# EAGLE library part XCV400_HQ240 (library xilinx-xcv)
xcv400_hq240 edit this description Auto generated by make-symbol-device-package-bsdl.ulp Rev. 26 Source: xcv400_hq240.bsd
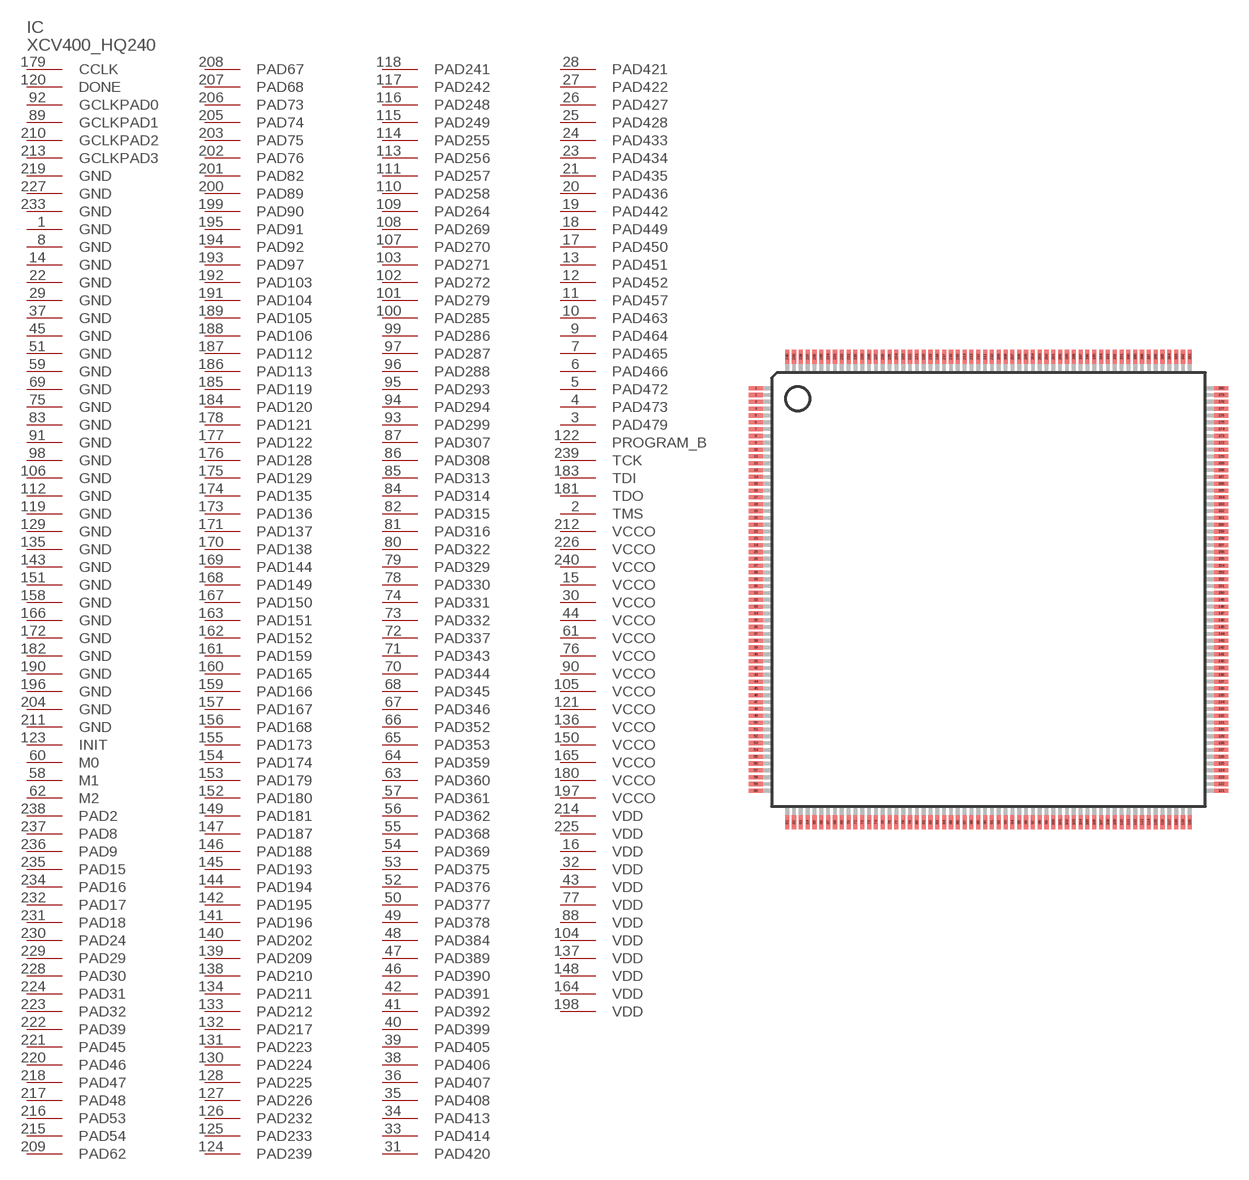
[diagram p97: symbol with the pads of HQ240; footprint HQ240]

Designator prefix IC

## XCV400_HQ240 (OC_FARNELL: unknown; OC_NEWARK: unknown)  [HQ240]
1  GND  pwr
2  TMS  in
3  PAD479
4  PAD473
5  PAD472
6  PAD466
7  PAD465
8  GND  pwr
9  PAD464
10  PAD463
11  PAD457
12  PAD452
13  PAD451
14  GND  pwr
15  VCCO  pwr
16  VDD  pwr
17  PAD450
18  PAD449
19  PAD442
20  PAD436
21  PAD435
22  GND  pwr
23  PAD434
24  PAD433
25  PAD428
26  PAD427
27  PAD422
28  PAD421
29  GND  pwr
30  VCCO  pwr
31  PAD420
32  VDD  pwr
33  PAD414
34  PAD413
35  PAD408
36  PAD407
37  GND  pwr
38  PAD406
39  PAD405
40  PAD399
41  PAD392
42  PAD391
43  VDD  pwr
44  VCCO  pwr
45  GND  pwr
46  PAD390
47  PAD389
48  PAD384
49  PAD378
50  PAD377
51  GND  pwr
52  PAD376
53  PAD375
54  PAD369
55  PAD368
56  PAD362
57  PAD361
58  M1  in
59  GND  pwr
60  M0  in
61  VCCO  pwr
62  M2  in
63  PAD360
64  PAD359
65  PAD353
66  PAD352
67  PAD346
68  PAD345
69  GND  pwr
70  PAD344
71  PAD343
72  PAD337
73  PAD332
74  PAD331
75  GND  pwr
76  VCCO  pwr
77  VDD  pwr
78  PAD330
79  PAD329
80  PAD322
81  PAD316
82  PAD315
83  GND  pwr
84  PAD314
85  PAD313
86  PAD308
87  PAD307
88  VDD  pwr
89  GCLKPAD1  in
90  VCCO  pwr
91  GND  pwr
92  GCLKPAD0  in
93  PAD299
94  PAD294
95  PAD293
96  PAD288
97  PAD287
98  GND  pwr
99  PAD286
100  PAD285
101  PAD279
102  PAD272
103  PAD271
104  VDD  pwr
105  VCCO  pwr
106  GND  pwr
107  PAD270
108  PAD269
109  PAD264
110  PAD258
111  PAD257
112  GND  pwr
113  PAD256
114  PAD255
115  PAD249
116  PAD248
117  PAD242
118  PAD241
119  GND  pwr
120  DONE
121  VCCO  pwr
122  PROGRAM_B  in
123  INIT
124  PAD239
125  PAD233
126  PAD232
127  PAD226
128  PAD225
129  GND  pwr
130  PAD224
131  PAD223
132  PAD217
133  PAD212
134  PAD211
135  GND  pwr
136  VCCO  pwr
137  VDD  pwr
138  PAD210
139  PAD209
140  PAD202
141  PAD196
142  PAD195
143  GND  pwr
144  PAD194
145  PAD193
146  PAD188
147  PAD187
148  VDD  pwr
149  PAD181
150  VCCO  pwr
151  GND  pwr
152  PAD180
153  PAD179
154  PAD174
155  PAD173
156  PAD168
157  PAD167
158  GND  pwr
159  PAD166
160  PAD165
161  PAD159
162  PAD152
163  PAD151
164  VDD  pwr
165  VCCO  pwr
166  GND  pwr
167  PAD150
168  PAD149
169  PAD144
170  PAD138
171  PAD137
172  GND  pwr
173  PAD136
174  PAD135
175  PAD129
176  PAD128
177  PAD122
178  PAD121
179  CCLK
180  VCCO  pwr
181  TDO  out
182  GND  pwr
183  TDI  in
184  PAD120
185  PAD119
186  PAD113
187  PAD112
188  PAD106
189  PAD105
190  GND  pwr
191  PAD104
192  PAD103
193  PAD97
194  PAD92
195  PAD91
196  GND  pwr
197  VCCO  pwr
198  VDD  pwr
199  PAD90
200  PAD89
201  PAD82
202  PAD76
203  PAD75
204  GND  pwr
205  PAD74
206  PAD73
207  PAD68
208  PAD67
209  PAD62
210  GCLKPAD2  in
211  GND  pwr
212  VCCO  pwr
213  GCLKPAD3  in
214  VDD  pwr
215  PAD54
216  PAD53
217  PAD48
218  PAD47
219  GND  pwr
220  PAD46
221  PAD45
222  PAD39
223  PAD32
224  PAD31
225  VDD  pwr
226  VCCO  pwr
227  GND  pwr
228  PAD30
229  PAD29
230  PAD24
231  PAD18
232  PAD17
233  GND  pwr
234  PAD16
235  PAD15
236  PAD9
237  PAD8
238  PAD2
239  TCK  in
240  VCCO  pwr

## Footprint HQ240 (pad centres in mm)
HQ240 Auto generated by make-symbol-device-package-bsdl.ulp Rev. 26
smd 1 x 0.3: 1 -17.05,14.75; 2 -17.05,14.25; 3 -17.05,13.75; 4 -17.05,13.25; 5 -17.05,12.75; 6 -17.05,12.25; 7 -17.05,11.75; 8 -17.05,11.25; 9 -17.05,10.75; 10 -17.05,10.25; 11 -17.05,9.75; 12 -17.05,9.25; 13 -17.05,8.75; 14 -17.05,8.25; 15 -17.05,7.75; 16 -17.05,7.25; 17 -17.05,6.75; 18 -17.05,6.25; 19 -17.05,5.75; 20 -17.05,5.25; 21 -17.05,4.75; 22 -17.05,4.25; 23 -17.05,3.75; 24 -17.05,3.25; 25 -17.05,2.75; 26 -17.05,2.25; 27 -17.05,1.75; 28 -17.05,1.25; 29 -17.05,0.75; 30 -17.05,0.25; 31 -17.05,-0.25; 32 -17.05,-0.75; 33 -17.05,-1.25; 34 -17.05,-1.75; 35 -17.05,-2.25; 36 -17.05,-2.75; 37 -17.05,-3.25; 38 -17.05,-3.75; 39 -17.05,-4.25; 40 -17.05,-4.75; 41 -17.05,-5.25; 42 -17.05,-5.75; 43 -17.05,-6.25; 44 -17.05,-6.75; 45 -17.05,-7.25; 46 -17.05,-7.75; 47 -17.05,-8.25; 48 -17.05,-8.75; 49 -17.05,-9.25; 50 -17.05,-9.75; 51 -17.05,-10.25; 52 -17.05,-10.75; 53 -17.05,-11.25; 54 -17.05,-11.75; 55 -17.05,-12.25; 56 -17.05,-12.75; 57 -17.05,-13.25; 58 -17.05,-13.75; 59 -17.05,-14.25; 60 -17.05,-14.75; 121 17.05,-14.75; 122 17.05,-14.25; 123 17.05,-13.75; 124 17.05,-13.25; 125 17.05,-12.75; 126 17.05,-12.25; 127 17.05,-11.75; 128 17.05,-11.25; 129 17.05,-10.75; 130 17.05,-10.25; 131 17.05,-9.75; 132 17.05,-9.25; 133 17.05,-8.75; 134 17.05,-8.25; 135 17.05,-7.75; 136 17.05,-7.25; 137 17.05,-6.75; 138 17.05,-6.25; 139 17.05,-5.75; 140 17.05,-5.25; 141 17.05,-4.75; 142 17.05,-4.25; 143 17.05,-3.75; 144 17.05,-3.25; 145 17.05,-2.75; 146 17.05,-2.25; 147 17.05,-1.75; 148 17.05,-1.25; 149 17.05,-0.75; 150 17.05,-0.25; 151 17.05,0.25; 152 17.05,0.75; 153 17.05,1.25; 154 17.05,1.75; 155 17.05,2.25; 156 17.05,2.75; 157 17.05,3.25; 158 17.05,3.75; 159 17.05,4.25; 160 17.05,4.75; 161 17.05,5.25; 162 17.05,5.75; 163 17.05,6.25; 164 17.05,6.75; 165 17.05,7.25; 166 17.05,7.75; 167 17.05,8.25; 168 17.05,8.75; 169 17.05,9.25; 170 17.05,9.75; 171 17.05,10.25; 172 17.05,10.75; 173 17.05,11.25; 174 17.05,11.75; 175 17.05,12.25; 176 17.05,12.75; 177 17.05,13.25; 178 17.05,13.75; 179 17.05,14.25; 180 17.05,14.75
smd 0.3 x 1: 61 -14.75,-17.05; 62 -14.25,-17.05; 63 -13.75,-17.05; 64 -13.25,-17.05; 65 -12.75,-17.05; 66 -12.25,-17.05; 67 -11.75,-17.05; 68 -11.25,-17.05; 69 -10.75,-17.05; 70 -10.25,-17.05; 71 -9.75,-17.05; 72 -9.25,-17.05; 73 -8.75,-17.05; 74 -8.25,-17.05; 75 -7.75,-17.05; 76 -7.25,-17.05; 77 -6.75,-17.05; 78 -6.25,-17.05; 79 -5.75,-17.05; 80 -5.25,-17.05; 81 -4.75,-17.05; 82 -4.25,-17.05; 83 -3.75,-17.05; 84 -3.25,-17.05; 85 -2.75,-17.05; 86 -2.25,-17.05; 87 -1.75,-17.05; 88 -1.25,-17.05; 89 -0.75,-17.05; 90 -0.25,-17.05; 91 0.25,-17.05; 92 0.75,-17.05; 93 1.25,-17.05; 94 1.75,-17.05; 95 2.25,-17.05; 96 2.75,-17.05; 97 3.25,-17.05; 98 3.75,-17.05; 99 4.25,-17.05; 100 4.75,-17.05; 101 5.25,-17.05; 102 5.75,-17.05; 103 6.25,-17.05; 104 6.75,-17.05; 105 7.25,-17.05; 106 7.75,-17.05; 107 8.25,-17.05; 108 8.75,-17.05; 109 9.25,-17.05; 110 9.75,-17.05; 111 10.25,-17.05; 112 10.75,-17.05; 113 11.25,-17.05; 114 11.75,-17.05; 115 12.25,-17.05; 116 12.75,-17.05; 117 13.25,-17.05; 118 13.75,-17.05; 119 14.25,-17.05; 120 14.75,-17.05; 181 14.75,17.05; 182 14.25,17.05; 183 13.75,17.05; 184 13.25,17.05; 185 12.75,17.05; 186 12.25,17.05; 187 11.75,17.05; 188 11.25,17.05; 189 10.75,17.05; 190 10.25,17.05; 191 9.75,17.05; 192 9.25,17.05; 193 8.75,17.05; 194 8.25,17.05; 195 7.75,17.05; 196 7.25,17.05; 197 6.75,17.05; 198 6.25,17.05; 199 5.75,17.05; 200 5.25,17.05; 201 4.75,17.05; 202 4.25,17.05; 203 3.75,17.05; 204 3.25,17.05; 205 2.75,17.05; 206 2.25,17.05; 207 1.75,17.05; 208 1.25,17.05; 209 0.75,17.05; 210 0.25,17.05; 211 -0.25,17.05; 212 -0.75,17.05; 213 -1.25,17.05; 214 -1.75,17.05; 215 -2.25,17.05; 216 -2.75,17.05; 217 -3.25,17.05; 218 -3.75,17.05; 219 -4.25,17.05; 220 -4.75,17.05; 221 -5.25,17.05; 222 -5.75,17.05; 223 -6.25,17.05; 224 -6.75,17.05; 225 -7.25,17.05; 226 -7.75,17.05; 227 -8.25,17.05; 228 -8.75,17.05; 229 -9.25,17.05; 230 -9.75,17.05; 231 -10.25,17.05; 232 -10.75,17.05; 233 -11.25,17.05; 234 -11.75,17.05; 235 -12.25,17.05; 236 -12.75,17.05; 237 -13.25,17.05; 238 -13.75,17.05; 239 -14.25,17.05; 240 -14.75,17.05